# Altium footprint library Inductor_THT.PcbLib: 269 footprints (part 14 of 17)
Each footprint in its own frame and in the unit in brackets; x right, y up, seen from the top. Pads: shape width x height; smd on the part's side, far side on the other; paste and mask are expansions set on the pad; w line width, h text height; cw(c..) or ccw(c..) is an arc to the next point about the centre after c.
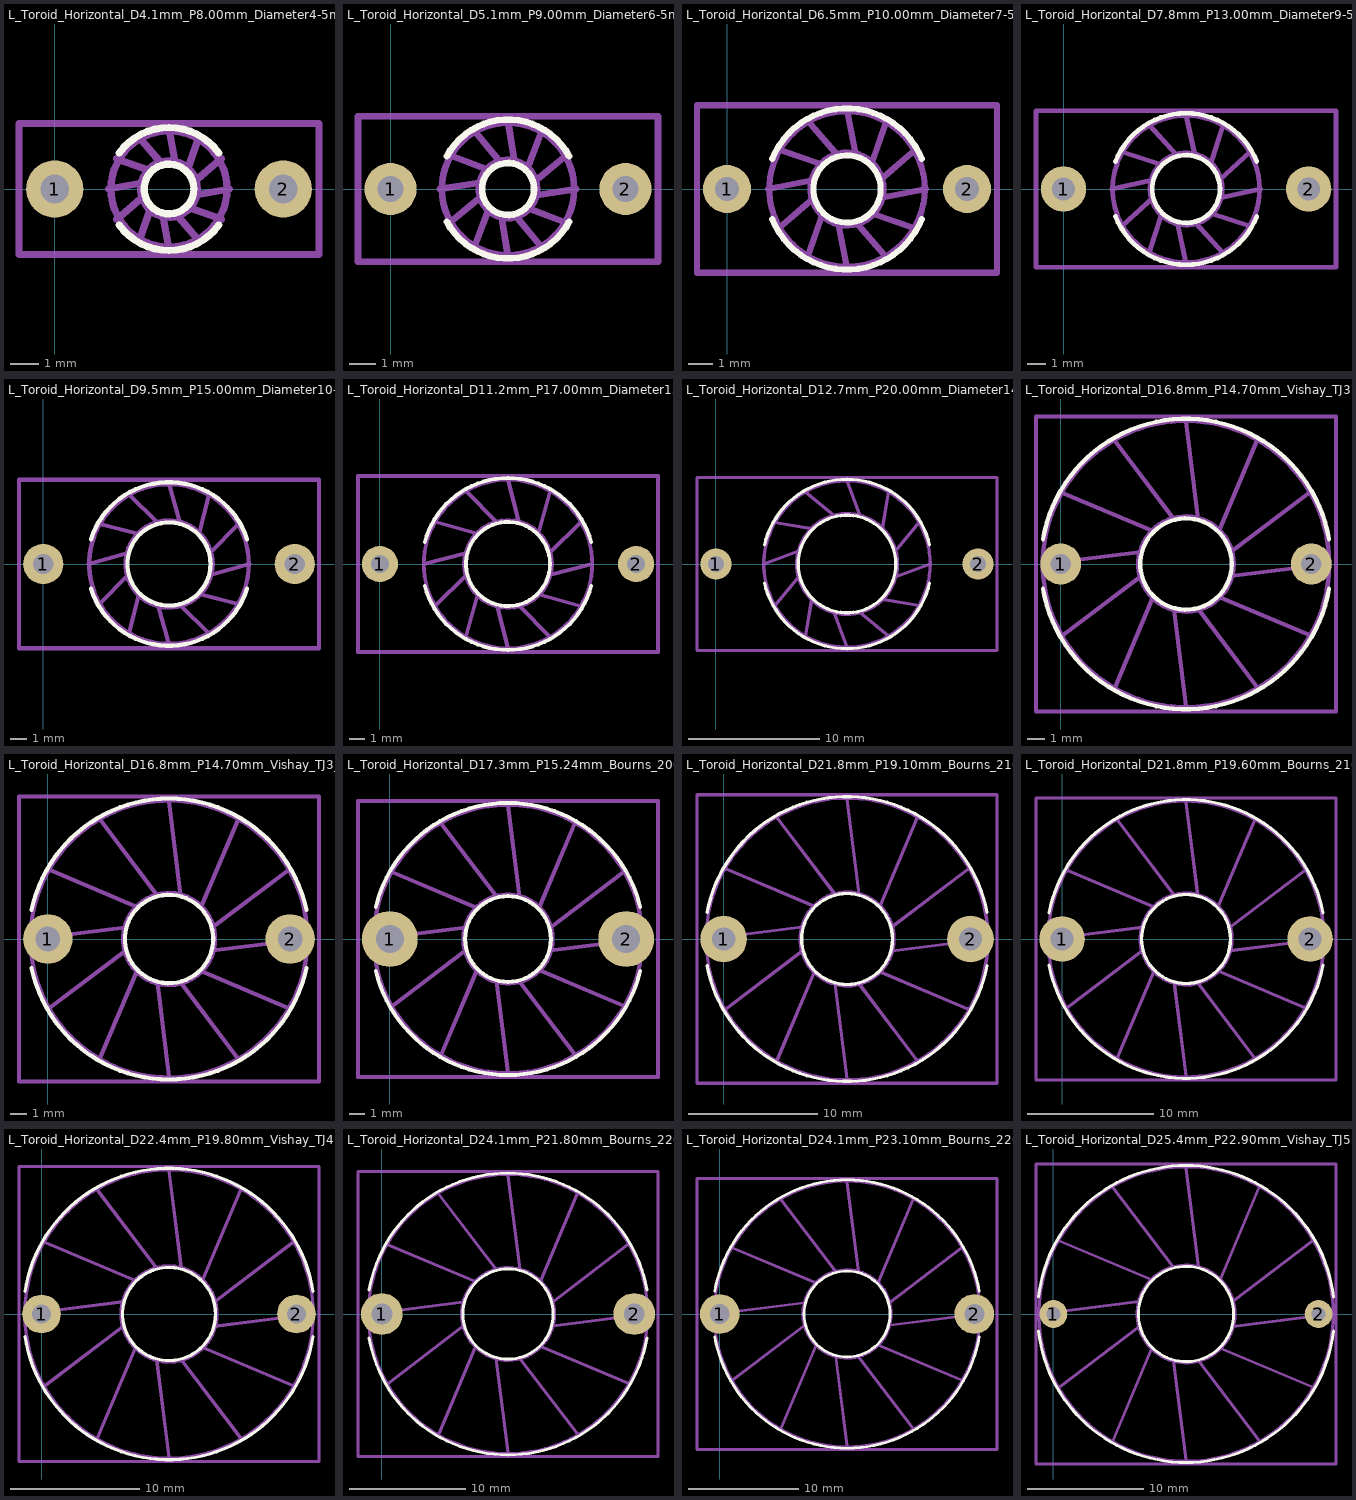
[diagram p13: the footprints below, top view; thin cyan lines are the x and y axes]

## L_Toroid_Horizontal_D4.1mm_P8.00mm_Diameter4-5mm_Amidon-T16 [mm]
pads (2):
  round 2 hole 1: 1(0,0) 2(8,0)
F.SilkS:
  circle w0.254: c4,0 r0.871
  lines w0.254: 2.255,-1.26 ccw(c4,0) 5.745,-1.26 ; 2.255,1.26 cw(c4,0) 5.745,1.26
Top Assembly:
  circle w0.254: c4,0 r2.032
  circle w0.254: c4,0 r0.991
  lines w0.254: 1.891,0 3.142,0.23 ; 2.174,-1.054 3.142,-0.23 ; 2.174,1.054 3.372,0.628 ; 2.946,-1.826 3.372,-0.628 ; 2.946,1.826 3.77,0.858 ; 3.77,-0.858 4,-2.109 ; 4,2.109 4.23,0.858 ; 4.23,-0.858 5.054,-1.826 ; 4.628,-0.628 5.826,-1.054 ; 4.628,0.628 5.054,1.826 ; 4.858,-0.23 6.109,0 ; 4.858,0.23 5.826,1.054
  text "'.Designator'" at 0.711,-0.683 h0.81
Top Courtyard:
  lines w0.254: -1.25,-2.29 9.25,-2.29 9.25,2.29 -1.25,2.29 -1.25,-2.29
Top Designator:
  text ".Designator" at -3.618,-0.508 h1.52

## L_Toroid_Horizontal_D5.1mm_P9.00mm_Diameter6-5mm_Amidon-T20 [mm]
pads (2):
  round 2 hole 1: 1(0,0) 2(9,0)
F.SilkS:
  circle w0.254: c4.5,0 r0.998
  lines w0.254: 2.157,-1.26 ccw(c4.5,0) 6.843,-1.26 ; 2.157,1.26 cw(c4.5,0) 6.843,1.26
Top Assembly:
  circle w0.254: c4.5,0 r2.54
  circle w0.254: c4.5,0 r1.118
  lines w0.254: 1.893,0 3.517,0.263 ; 2.242,-1.303 3.517,-0.263 ; 2.242,1.303 3.78,0.72 ; 3.197,-2.258 3.78,-0.72 ; 3.197,2.258 4.237,0.983 ; 4.237,-0.983 4.5,-2.607 ; 4.5,2.607 4.763,0.983 ; 4.763,-0.983 5.803,-2.258 ; 5.22,-0.72 6.758,-1.303 ; 5.22,0.72 5.803,2.258 ; 5.483,-0.263 7.107,0 ; 5.483,0.263 6.758,1.303
  text "'.Designator'" at 0.453,-0.84 h1
Top Courtyard:
  lines w0.254: -1.25,-2.79 10.25,-2.79 10.25,2.79 -1.25,2.79 -1.25,-2.79
Top Designator:
  text ".Designator" at -3.118,-0.508 h1.52

## L_Toroid_Horizontal_D6.5mm_P10.00mm_Diameter7-5mm_Amidon-T25 [mm]
pads (2):
  round 2 hole 1: 1(0,0) 2(10,0)
F.SilkS:
  circle w0.254: c5,0 r1.404
  lines w0.254: 1.887,-1.26 ccw(c5,0) 8.113,-1.26 ; 1.887,1.26 cw(c5,0) 8.113,1.26
Top Assembly:
  circle w0.254: c5,0 r3.238
  circle w0.254: c5,0 r1.524
  lines w0.254: 1.709,0 3.617,0.371 ; 2.15,-1.646 3.617,-0.371 ; 2.15,1.646 3.987,1.013 ; 3.354,-2.85 3.987,-1.013 ; 3.354,2.85 4.629,1.383 ; 4.629,-1.383 5,-3.291 ; 5,3.291 5.371,1.383 ; 5.371,-1.383 6.646,-2.85 ; 6.013,-1.013 7.85,-1.646 ; 6.013,1.013 6.646,2.85 ; 6.383,-0.371 8.291,0 ; 6.383,0.371 7.85,1.646
  text "'.Designator'" at 0.953,-0.84 h1
Top Courtyard:
  lines w0.254: -1.25,-3.49 11.25,-3.49 11.25,3.49 -1.25,3.49 -1.25,-3.49
Top Designator:
  text ".Designator" at -2.618,-0.508 h1.52

## L_Toroid_Horizontal_D7.8mm_P13.00mm_Diameter9-5mm_Amidon-T30 [mm]
pads (2):
  round 2.4 hole 1.2: 1(0,0) 2(13,0)
F.SilkS:
  circle w0.254: c6.5,0 r1.798
  lines w0.254: 2.756,-1.46 ccw(c6.5,0) 10.244,-1.46 ; 2.756,1.46 cw(c6.5,0) 10.244,1.46
Top Assembly:
  circle w0.254: c6.5,0 r3.899
  circle w0.254: c6.5,0 r1.918
  lines w0.254: 2.561,0 4.729,0.475 ; 3.089,-1.969 4.729,-0.475 ; 3.089,1.969 5.203,1.297 ; 4.531,-3.411 5.203,-1.297 ; 4.531,3.411 6.025,1.771 ; 6.025,-1.771 6.5,-3.939 ; 6.5,3.939 6.975,1.771 ; 6.975,-1.771 8.469,-3.411 ; 7.797,-1.297 9.911,-1.969 ; 7.797,1.297 8.469,3.411 ; 8.271,-0.475 10.439,0 ; 8.271,0.475 9.911,1.969
  text "'.Designator'" at 2.453,-0.84 h1
Top Courtyard:
  lines w0.254: -1.46,-4.15 14.45,-4.15 14.45,4.15 -1.46,4.15 -1.46,-4.15
Top Designator:
  text ".Designator" at -1.123,-0.508 h1.52

## L_Toroid_Horizontal_D9.5mm_P15.00mm_Diameter10-5mm_Amidon-T37 [mm]
pads (2):
  round 2.4 hole 1.2: 1(0,0) 2(15,0)
F.SilkS:
  circle w0.254: c7.5,0 r2.484
  lines w0.254: 2.841,-1.46 ccw(c7.5,0) 12.159,-1.46 ; 2.841,1.46 cw(c7.5,0) 12.159,1.46
Top Assembly:
  circle w0.254: c7.5,0 r4.763
  circle w0.254: c7.5,0 r2.603
  lines w0.254: 2.715,0 5.053,0.656 ; 3.356,-2.392 5.053,-0.656 ; 3.356,2.392 5.709,1.791 ; 5.108,-4.144 5.709,-1.791 ; 5.108,4.144 6.844,2.447 ; 6.844,-2.447 7.5,-4.785 ; 7.5,4.785 8.156,2.447 ; 8.156,-2.447 9.892,-4.144 ; 9.291,-1.791 11.644,-2.392 ; 9.291,1.791 9.892,4.144 ; 9.947,-0.656 12.285,0 ; 9.947,0.656 11.644,2.392
  text "'.Designator'" at 3.453,-0.84 h1
Top Courtyard:
  lines w0.254: -1.45,-5.02 16.45,-5.02 16.45,5.02 -1.45,5.02 -1.45,-5.02
Top Designator:
  text ".Designator" at -0.118,-0.508 h1.52

## L_Toroid_Horizontal_D11.2mm_P17.00mm_Diameter12-5mm_Amidon-T44 [mm]
pads (2):
  round 2.4 hole 1.2: 1(0,0) 2(17,0)
F.SilkS:
  circle w0.254: c8.5,0 r2.788
  lines w0.254: 2.982,-1.46 ccw(c8.5,0) 14.018,-1.46 ; 2.982,1.46 cw(c8.5,0) 14.018,1.46
Top Assembly:
  circle w0.254: c8.5,0 r5.588
  circle w0.254: c8.5,0 r2.908
  lines w0.254: 2.906,0 5.753,0.736 ; 3.656,-2.797 5.753,-0.736 ; 3.656,2.797 6.489,2.011 ; 5.703,-4.844 6.489,-2.011 ; 5.703,4.844 7.764,2.747 ; 7.764,-2.747 8.5,-5.594 ; 8.5,5.594 9.236,2.747 ; 9.236,-2.747 11.297,-4.844 ; 10.511,-2.011 13.344,-2.797 ; 10.511,2.011 11.297,4.844 ; 11.247,-0.736 14.094,0 ; 11.247,0.736 13.344,2.797
  text "'.Designator'" at 4.453,-0.84 h1
Top Courtyard:
  lines w0.254: -1.45,-5.84 18.45,-5.84 18.45,5.84 -1.45,5.84 -1.45,-5.84
Top Designator:
  text ".Designator" at 0.882,-0.508 h1.52

## L_Toroid_Horizontal_D12.7mm_P20.00mm_Diameter14-5mm_Amidon-T50 [mm]
pads (2):
  round 2.4 hole 1.2: 1(0,0) 2(20,0)
F.SilkS:
  circle w0.254: c10,0 r3.728
  lines w0.254: 3.697,-1.46 ccw(c10,0) 16.303,-1.46 ; 3.697,1.46 cw(c10,0) 16.303,1.46
Top Assembly:
  circle w0.254: c10,0 r6.35
  circle w0.254: c10,0 r3.848
  lines w0.254: 3.659,0 6.327,0.984 ; 4.509,-3.17 6.327,-0.984 ; 4.509,3.17 7.311,2.689 ; 6.83,-5.491 7.311,-2.689 ; 6.83,5.491 9.016,3.673 ; 9.016,-3.673 10,-6.341 ; 10,6.341 10.984,3.673 ; 10.984,-3.673 13.17,-5.491 ; 12.689,-2.689 15.491,-3.17 ; 12.689,2.689 13.17,5.491 ; 13.673,-0.984 16.341,0 ; 13.673,0.984 15.491,3.17
  text "'.Designator'" at 5.953,-0.84 h1
Top Courtyard:
  lines w0.254: -1.45,-6.6 21.45,-6.6 21.45,6.6 -1.45,6.6 -1.45,-6.6
Top Designator:
  text ".Designator" at 2.382,-0.508 h1.52

## L_Toroid_Horizontal_D16.8mm_P14.70mm_Vishay_TJ3 [mm]
pads (2):
  round 2.4 hole 1.2: 1(0,0) 2(14.7,0)
F.SilkS:
  circle w0.254: c7.35,0 r2.68
  lines w0.254: -1.044,-1.46 ccw(c7.35,0) 15.744,-1.46 ; -1.044,1.46 cw(c7.35,0) 15.744,1.46
Top Assembly:
  circle w0.254: c7.35,0 r8.4
  circle w0.254: c7.35,0 r2.8
  lines w0.254: -1,0 4.71,0.708 ; 0.119,-4.175 4.71,-0.708 ; 0.119,4.175 5.417,1.933 ; 3.175,-7.231 5.417,-1.933 ; 3.175,7.231 6.642,2.64 ; 6.642,-2.64 7.35,-8.35 ; 7.35,8.35 8.058,2.64 ; 8.058,-2.64 11.525,-7.231 ; 9.283,-1.933 14.581,-4.175 ; 9.283,1.933 11.525,7.231 ; 9.99,-0.708 15.7,0 ; 9.99,0.708 14.581,4.175
  text "'.Designator'" at 3.303,-0.84 h1
Top Courtyard:
  lines w0.254: -1.45,-8.65 16.15,-8.65 16.15,8.65 -1.45,8.65 -1.45,-8.65
Top Designator:
  text ".Designator" at -0.268,-0.508 h1.52

## L_Toroid_Horizontal_D16.8mm_P14.70mm_Vishay_TJ3_BigPads [mm]
pads (2):
  round 3 hole 1.5: 1(0,0) 2(14.7,0)
F.SilkS:
  circle w0.254: c7.35,0 r2.68
  lines w0.254: -0.986,-1.76 ccw(c7.35,0) 15.686,-1.76 ; -0.986,1.76 cw(c7.35,0) 15.686,1.76
Top Assembly:
  circle w0.254: c7.35,0 r8.4
  circle w0.254: c7.35,0 r2.8
  lines w0.254: -1,0 4.71,0.708 ; 0.119,-4.175 4.71,-0.708 ; 0.119,4.175 5.417,1.933 ; 3.175,-7.231 5.417,-1.933 ; 3.175,7.231 6.642,2.64 ; 6.642,-2.64 7.35,-8.35 ; 7.35,8.35 8.058,2.64 ; 8.058,-2.64 11.525,-7.231 ; 9.283,-1.933 14.581,-4.175 ; 9.283,1.933 11.525,7.231 ; 9.99,-0.708 15.7,0 ; 9.99,0.708 14.581,4.175
  text "'.Designator'" at 3.303,-0.84 h1
Top Courtyard:
  lines w0.254: -1.75,-8.65 16.45,-8.65 16.45,8.65 -1.75,8.65 -1.75,-8.65
Top Designator:
  text ".Designator" at -0.268,-0.508 h1.52

## L_Toroid_Horizontal_D17.3mm_P15.24mm_Bourns_2000 [mm]
pads (2):
  round 3.6 hole 1.8: 1(0,0) 2(15.24,0)
F.SilkS:
  circle w0.254: c7.62,0 r2.763
  lines w0.254: -0.905,-2.06 ccw(c7.62,0) 16.145,-2.06 ; -0.905,2.06 cw(c7.62,0) 16.145,2.06
Top Assembly:
  circle w0.254: c7.62,0 r8.65
  circle w0.254: c7.62,0 r2.883
  lines w0.254: -0.975,0 4.897,0.73 ; 0.177,-4.297 4.897,-0.73 ; 0.177,4.297 5.627,1.993 ; 3.323,-7.443 5.627,-1.993 ; 3.323,7.443 6.89,2.723 ; 6.89,-2.723 7.62,-8.595 ; 7.62,8.595 8.35,2.723 ; 8.35,-2.723 11.917,-7.443 ; 9.613,-1.993 15.063,-4.297 ; 9.613,1.993 11.917,7.443 ; 10.343,-0.73 16.215,0 ; 10.343,0.73 15.063,4.297
  text "'.Designator'" at 3.573,-0.84 h1
Top Courtyard:
  lines w0.254: -2.05,-8.9 17.29,-8.9 17.29,8.9 -2.05,8.9 -2.05,-8.9
Top Designator:
  text ".Designator" at 0.002,-0.508 h1.52

## L_Toroid_Horizontal_D21.8mm_P19.10mm_Bourns_2100 [mm]
pads (2):
  round 3.6 hole 1.8: 1(0,0) 2(19.1,0)
F.SilkS:
  circle w0.254: c9.55,0 r3.513
  lines w0.254: -1.276,-2.06 ccw(c9.55,0) 20.376,-2.06 ; -1.276,2.06 cw(c9.55,0) 20.376,2.06
Top Assembly:
  circle w0.254: c9.55,0 r10.9
  circle w0.254: c9.55,0 r3.633
  lines w0.254: -1.25,0 6.089,0.928 ; 0.197,-5.4 6.089,-0.928 ; 0.197,5.4 7.016,2.534 ; 4.15,-9.353 7.016,-2.534 ; 4.15,9.353 8.622,3.461 ; 8.622,-3.461 9.55,-10.8 ; 9.55,10.8 10.478,3.461 ; 10.478,-3.461 14.95,-9.353 ; 12.084,-2.534 18.903,-5.4 ; 12.084,2.534 14.95,9.353 ; 13.011,-0.928 20.35,0 ; 13.011,0.928 18.903,5.4
  text "'.Designator'" at 5.503,-0.84 h1
Top Courtyard:
  lines w0.254: -2.06,-11.15 21.15,-11.15 21.15,11.15 -2.06,11.15 -2.06,-11.15
Top Designator:
  text ".Designator" at 1.927,-0.508 h1.52

## L_Toroid_Horizontal_D21.8mm_P19.60mm_Bourns_2100 [mm]
pads (2):
  round 3.6 hole 1.8: 1(0,0) 2(19.6,0)
F.SilkS:
  circle w0.254: c9.8,0 r3.513
  lines w0.254: -1.026,-2.06 ccw(c9.8,0) 20.626,-2.06 ; -1.026,2.06 cw(c9.8,0) 20.626,2.06
Top Assembly:
  circle w0.254: c9.8,0 r10.9
  circle w0.254: c9.8,0 r3.633
  lines w0.254: -1,0 6.339,0.928 ; 0.447,-5.4 6.339,-0.928 ; 0.447,5.4 7.266,2.534 ; 4.4,-9.353 7.266,-2.534 ; 4.4,9.353 8.872,3.461 ; 8.872,-3.461 9.8,-10.8 ; 9.8,10.8 10.728,3.461 ; 10.728,-3.461 15.2,-9.353 ; 12.334,-2.534 19.153,-5.4 ; 12.334,2.534 15.2,9.353 ; 13.261,-0.928 20.6,0 ; 13.261,0.928 19.153,5.4
  text "'.Designator'" at 5.753,-0.84 h1
Top Courtyard:
  lines w0.254: -2.06,-11.15 21.65,-11.15 21.65,11.15 -2.06,11.15 -2.06,-11.15
Top Designator:
  text ".Designator" at 2.177,-0.508 h1.52

## L_Toroid_Horizontal_D22.4mm_P19.80mm_Vishay_TJ4 [mm]
pads (2):
  round 3 hole 1.5: 1(0,0) 2(19.8,0)
F.SilkS:
  circle w0.254: c9.9,0 r3.613
  lines w0.254: -1.282,-1.76 ccw(c9.9,0) 21.082,-1.76 ; -1.282,1.76 cw(c9.9,0) 21.082,1.76
Top Assembly:
  circle w0.254: c9.9,0 r11.2
  circle w0.254: c9.9,0 r3.733
  lines w0.254: -1.194,0 6.34,0.954 ; 0.293,-5.547 6.34,-0.954 ; 0.293,5.547 7.294,2.606 ; 4.353,-9.607 7.294,-2.606 ; 4.353,9.607 8.946,3.56 ; 8.946,-3.56 9.9,-11.094 ; 9.9,11.094 10.854,3.56 ; 10.854,-3.56 15.447,-9.607 ; 12.506,-2.606 19.507,-5.547 ; 12.506,2.606 15.447,9.607 ; 13.46,-0.954 20.994,0 ; 13.46,0.954 19.507,5.547
  text "'.Designator'" at 5.853,-0.84 h1
Top Courtyard:
  lines w0.254: -1.75,-11.45 21.55,-11.45 21.55,11.45 -1.75,11.45 -1.75,-11.45
Top Designator:
  text ".Designator" at 2.282,-0.508 h1.52

## L_Toroid_Horizontal_D24.1mm_P21.80mm_Bourns_2200 [mm]
pads (2):
  round 3.6 hole 1.8: 1(0,0) 2(21.8,0)
F.SilkS:
  circle w0.254: c10.9,0 r3.897
  lines w0.254: -1.094,-2.06 ccw(c10.9,0) 22.894,-2.06 ; -1.094,2.06 cw(c10.9,0) 22.894,2.06
Top Assembly:
  circle w0.254: c10.9,0 r12.05
  circle w0.254: c10.9,0 r4.017
  lines w0.254: -1.027,0 7.061,1.029 ; 0.571,-5.963 7.061,-1.029 ; 0.571,5.963 8.09,2.81 ; 4.937,-10.329 8.09,-2.81 ; 4.937,10.329 9.871,3.839 ; 9.871,-3.839 10.9,-11.927 ; 10.9,11.927 11.929,3.839 ; 11.929,-3.839 16.863,-10.329 ; 13.71,-2.81 21.229,-5.963 ; 13.71,2.81 16.863,10.329 ; 14.739,-1.029 22.827,0 ; 14.739,1.029 21.229,5.963
  text "'.Designator'" at 6.853,-0.84 h1
Top Courtyard:
  lines w0.254: -2.06,-12.3 23.85,-12.3 23.85,12.3 -2.06,12.3 -2.06,-12.3
Top Designator:
  text ".Designator" at 3.277,-0.508 h1.52

## L_Toroid_Horizontal_D24.1mm_P23.10mm_Bourns_2200 [mm]
pads (2):
  round 3.6 hole 1.8: 1(0,0) 2(23.1,0)
F.SilkS:
  circle w0.254: c11.55,0 r3.897
  lines w0.254: -0.444,-2.06 ccw(c11.55,0) 23.544,-2.06 ; -0.444,2.06 cw(c11.55,0) 23.544,2.06
Top Assembly:
  circle w0.254: c11.55,0 r12.05
  circle w0.254: c11.55,0 r4.017
  lines w0.254: -0.377,0 7.711,1.029 ; 1.221,-5.963 7.711,-1.029 ; 1.221,5.963 8.74,2.81 ; 5.587,-10.329 8.74,-2.81 ; 5.587,10.329 10.521,3.839 ; 10.521,-3.839 11.55,-11.927 ; 11.55,11.927 12.579,3.839 ; 12.579,-3.839 17.513,-10.329 ; 14.36,-2.81 21.879,-5.963 ; 14.36,2.81 17.513,10.329 ; 15.389,-1.029 23.477,0 ; 15.389,1.029 21.879,5.963
  text "'.Designator'" at 7.503,-0.84 h1
Top Courtyard:
  lines w0.254: -2.06,-12.3 25.15,-12.3 25.15,12.3 -2.06,12.3 -2.06,-12.3
Top Designator:
  text ".Designator" at 3.927,-0.508 h1.52

## L_Toroid_Horizontal_D25.4mm_P22.90mm_Vishay_TJ5 [mm]
pads (2):
  round 2.4 hole 1.2: 1(0,0) 2(22.9,0)
F.SilkS:
  circle w0.254: c11.45,0 r4.113
  lines w0.254: -1.287,-1.46 ccw(c11.45,0) 24.187,-1.46 ; -1.287,1.46 cw(c11.45,0) 24.187,1.46
Top Assembly:
  circle w0.254: c11.45,0 r12.7
  circle w0.254: c11.45,0 r4.233
  lines w0.254: -1.114,0 7.397,1.086 ; 0.57,-6.282 7.397,-1.086 ; 0.57,6.282 8.483,2.967 ; 5.168,-10.88 8.483,-2.967 ; 5.168,10.88 10.364,4.053 ; 10.364,-4.053 11.45,-12.564 ; 11.45,12.564 12.536,4.053 ; 12.536,-4.053 17.732,-10.88 ; 14.417,-2.967 22.33,-6.282 ; 14.417,2.967 17.732,10.88 ; 15.503,-1.086 24.014,0 ; 15.503,1.086 22.33,6.282
  text "'.Designator'" at 7.403,-0.84 h1
Top Courtyard:
  lines w0.254: -1.5,-12.95 24.4,-12.95 24.4,12.95 -1.5,12.95 -1.5,-12.95
Top Designator:
  text ".Designator" at 3.832,-0.508 h1.52